# EAGLE library part PTRAFO_S (library Trafo)
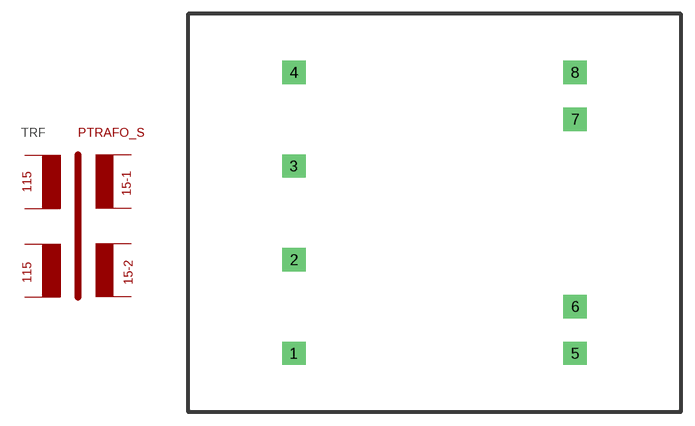
[diagram p3: symbol with the pads of PTRAFO_S; footprint PTRAFO_S]

Designator prefix TRF

## PTRAFO_S  [PTRAFO_S]
1  P2B
2  P2A
3  P1B
4  P1A
5  S2B
6  S2A
7  S1B
8  S1A

## Footprint PTRAFO_S (pad centres in mm)
drill 1 pad 2.54 square: 1 0,0; 2 0,10.16; 3 0,20.32; 4 0,30.48; 5 30.48,0; 6 30.48,5.08; 7 30.48,25.4; 8 30.48,30.48